# Altium schematic symbol library OPTO - Optoisolators.SchLib: 1 symbol
Pins are listed as number, name and electrical type; pins without a type are passive.

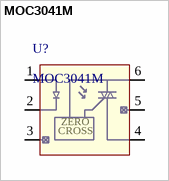
[diagram p0: symbol MOC3041M]

## MOC3041M
designator U?
OPTOISOLATOR 4.17KV TRIAC 6DIP; Manufacturer: ON Semiconductor/Fairchild; Zero Crossing Circuit: Yes; Number of Channels: 1; Voltage - Isolation: 4170Vrms; Voltage - Off State: 400V; Static dV/dt (Min): 1kV/µs; Current - LED Trigger (Ift) (Max): 15mA; Current - Hold (Ih): 400µA (Typ); Voltage - Forward (Vf) (Typ): 1.25V; Current - DC Forward (If) (Max): 60mA; Approvals: UL; Supplier 1: Digi-Key; Supplier Part Number 1: MOC3041M-ND; Manufacturer Part Number: MOC3041M; RoHS: RoHS Compliant; Category: Isolators; Stock 1: 5774; Pricing 1: 1=0.95, 10=0.735, 25=0.6092, 100=0.525, 250=0.462, 500=0.399, 1000=0.315, 2500=0.294, 5000=0.2835 (USD); Packaging: Tube; Part Status: Active; Output Type: Triac; Current - On State (It (RMS)) (Max): -; Turn On Time: -; Operating Temperature: -40°C ~ 85°C; Mounting Type: Through Hole; Package / Case: 6-DIP (0.300", 7.62mm); Supplier Device Package: 6-DIP; ComponentLink1URL: https://www.fairchildsemi.com/datasheets/MO/MOC3042M.pdf; ComponentLink1Description: https://www.fairchildsemi.com/datasheets/MO/MOC3042M.pdf; Supplier 2: Mouser; Supplier Part Number 2: 512-MOC3041-M
footprint DIP-6 White
pins: 1 A, 2 K, 3 NC, 4 T2, 5 NC, 6 T1
text: ZERO; CROSS